# EAGLE library part 39-30-?22? (library con-molex-mini-fit)
HEADER
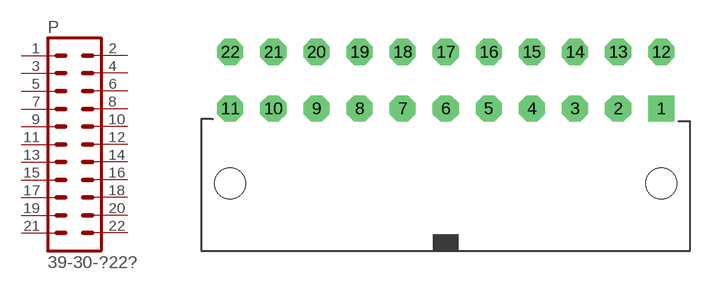
[diagram p8: symbol with the pads of 39-30-?22?; footprint 39-30-?22?]

Designator prefix P

## 39-30-22  [39-30-?22?]
1  1  pas
2  2  pas
3  3  pas
4  4  pas
5  5  pas
6  6  pas
7  7  pas
8  8  pas
9  9  pas
10  10  pas
11  11  pas
12  12  pas
13  13  pas
14  14  pas
15  15  pas
16  16  pas
17  17  pas
18  18  pas
19  19  pas
20  20  pas
21  21  pas
22  22  pas

## Footprint 39-30-?22? (pad centres in mm)
HEADER
drill 1.422 pad 2.54 square: 1 20.955,0
drill 1.422 pad 2.54 octagon: 2 16.764,0; 3 12.573,0; 4 8.382,0; 5 4.191,0; 6 0,0; 7 -4.191,0; 8 -8.382,0; 9 -12.573,0; 10 -16.764,0; 11 -20.955,0; 12 20.955,5.512; 13 16.764,5.512; 14 12.573,5.512; 15 8.382,5.512; 16 4.191,5.512; 17 0,5.512; 18 -4.191,5.512; 19 -8.382,5.512; 20 -12.573,5.512; 21 -16.764,5.512; 22 -20.955,5.512
hole 3 at -20.955,-7.3
hole 3 at 20.955,-7.3